# EAGLE library part AS-ITM-00130 (library tinycircuits)
SIM900 Module
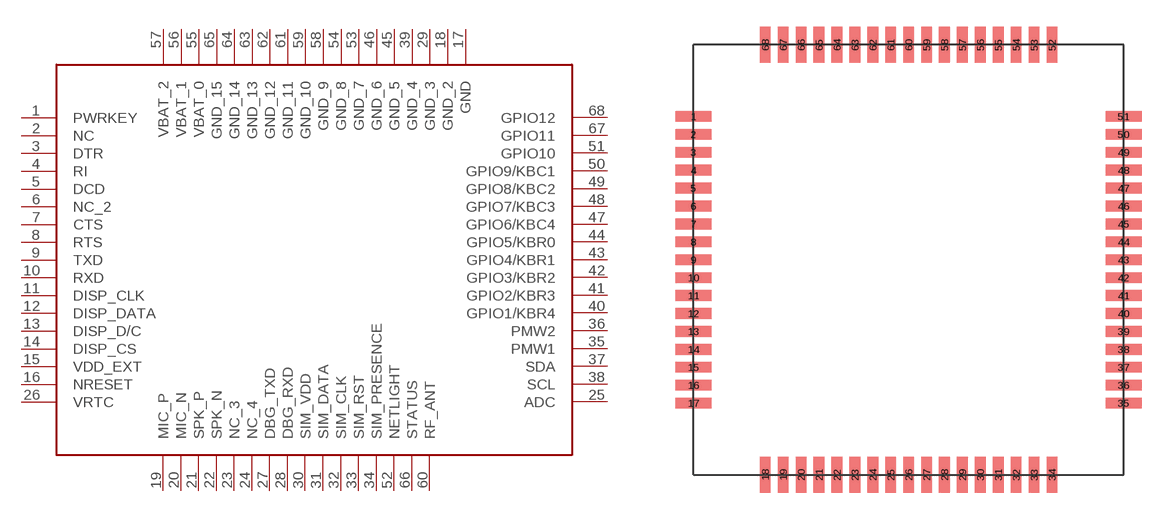
[diagram p54: symbol with the pads of SIM900; footprint SIM900]

Designator prefix -

## AS-ITM-00130  [SIM900]
1  PWRKEY
2  NC
3  DTR
4  RI
5  DCD
6  NC_2
7  CTS
8  RTS
9  TXD
10  RXD
11  DISP_CLK
12  DISP_DATA
13  DISP_D/C
14  DISP_CS
15  VDD_EXT
16  NRESET
17  GND
18  GND_2
19  MIC_P
20  MIC_N
21  SPK_P
22  SPK_N
23  NC_3
24  NC_4
25  ADC
26  VRTC
27  DBG_TXD
28  DBG_RXD
29  GND_3
30  SIM_VDD
31  SIM_DATA
32  SIM_CLK
33  SIM_RST
34  SIM_PRESENCE
35  PMW1
36  PMW2
37  SDA
38  SCL
39  GND_4
40  GPIO1/KBR4
41  GPIO2/KBR3
42  GPIO3/KBR2
43  GPIO4/KBR1
44  GPIO5/KBR0
45  GND_5
46  GND_6
47  GPIO6/KBC4
48  GPIO7/KBC3
49  GPIO8/KBC2
50  GPIO9/KBC1
51  GPIO10
52  NETLIGHT
53  GND_7
54  GND_8
55  VBAT_0
56  VBAT_1
57  VBAT_2
58  GND_9
59  GND_10
60  RF_ANT
61  GND_11
62  GND_12
63  GND_13
64  GND_14
65  GND_15
66  STATUS
67  GPIO11
68  GPIO12

## Footprint SIM900 (pad centres in mm)
smd 2 x 0.6: 1 -12.2,8.1; 2 -12.2,7.1; 3 -12.2,6.1; 4 -12.2,5.1; 5 -12.2,4.1; 6 -12.2,3.1; 7 -12.2,2.1; 8 -12.2,1.1; 9 -12.2,0.1; 10 -12.2,-0.9; 11 -12.2,-1.9; 12 -12.2,-2.9; 13 -12.2,-3.9; 14 -12.2,-4.9; 15 -12.2,-5.9; 16 -12.2,-6.9; 17 -12.2,-7.9; 35 11.8,-7.9; 36 11.8,-6.9; 37 11.8,-5.9; 38 11.8,-4.9; 39 11.8,-3.9; 40 11.8,-2.9; 41 11.8,-1.9; 42 11.8,-0.9; 43 11.8,0.1; 44 11.8,1.1; 45 11.8,2.1; 46 11.8,3.1; 47 11.8,4.1; 48 11.8,5.1; 49 11.8,6.1; 50 11.8,7.1; 51 11.8,8.1
smd 0.6 x 2: 18 -8.2,-11.9; 19 -7.2,-11.9; 20 -6.2,-11.9; 21 -5.2,-11.9; 22 -4.2,-11.9; 23 -3.2,-11.9; 24 -2.2,-11.9; 25 -1.2,-11.9; 26 -0.2,-11.9; 27 0.8,-11.9; 28 1.8,-11.9; 29 2.8,-11.9; 30 3.8,-11.9; 31 4.8,-11.9; 32 5.8,-11.9; 33 6.8,-11.9; 34 7.8,-11.9; 52 7.8,12.1; 53 6.8,12.1; 54 5.8,12.1; 55 4.8,12.1; 56 3.8,12.1; 57 2.8,12.1; 58 1.8,12.1; 59 0.8,12.1; 60 -0.2,12.1; 61 -1.2,12.1; 62 -2.2,12.1; 63 -3.2,12.1; 64 -4.2,12.1; 65 -5.2,12.1; 66 -6.2,12.1; 67 -7.2,12.1; 68 -8.2,12.1